# EAGLE library part U263-241N-4BQC11-1 (library U263-241N-4BQC11-1)
USB Connectors SMD RoHS Source: Datasheet <http://www.helloxkb.com/public/images/pdf/U263-241N-4BQC11-1-.pdf>
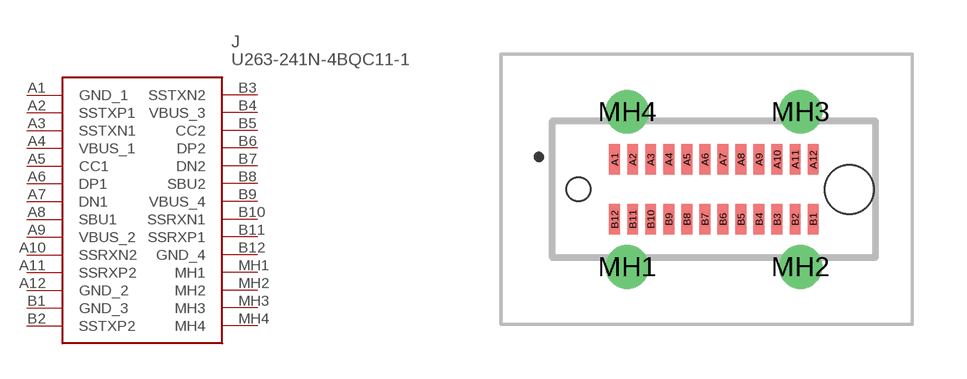
[diagram p0: symbol with the pads of U263241N4BQC111; footprint U263241N4BQC111]

Designator prefix J

## U263-241N-4BQC11-1 (Description: USB Connectors SMD RoHS; Height: 10.5mm; Manufacturer_Name: XKB Connectivity; Manufacturer_Part_Number: U263-241N-4BQC11-1)  [U263241N4BQC111]
A1  GND_1
A2  SSTXP1
A3  SSTXN1
A4  VBUS_1
A5  CC1
A6  DP1
A7  DN1
A8  SBU1
A9  VBUS_2
A10  SSRXN2
A11  SSRXP2
A12  GND_2
B1  GND_3
B2  SSTXP2
B3  SSTXN2
B4  VBUS_3
B5  CC2
B6  DP2
B7  DN2
B8  SBU2
B9  VBUS_4
B10  SSRXN1
B11  SSRXP1
B12  GND_4
MH1  MH1
MH2  MH2
MH3  MH3
MH4  MH4

## Footprint U263241N4BQC111 (pad centres in mm)
U263-241N-4BQC11-1-2
smd 0.3 x 0.85: A1 -2.75,0.83; A2 -2.25,0.83; A3 -1.75,0.83; A4 -1.25,0.83; A5 -0.75,0.83; A6 -0.25,0.83; A7 0.25,0.83; A8 0.75,0.83; A9 1.25,0.83; A10 1.75,0.83; A11 2.25,0.83; A12 2.75,0.83; B1 2.75,-0.83; B2 2.25,-0.83; B3 1.75,-0.83; B4 1.25,-0.83; B5 0.75,-0.83; B6 0.25,-0.83; B7 -0.25,-0.83; B8 -0.75,-0.83; B9 -1.25,-0.83; B10 -1.75,-0.83; B11 -2.25,-0.83; B12 -2.75,-0.83
drill 0.7 pad 1.2: MH1 -2.4,-2.15; MH2 2.4,-2.15; MH3 2.4,2.15; MH4 -2.4,2.15
hole 0.66 at -3.75,0
hole 1.36 at 3.75,0